# Altium footprint library CAP_ELEC_SIZE_H13.PcbLib: 1 footprints
Each footprint in its own frame and in the unit in brackets; x right, y up, seen from the top. Pads: shape width x height; smd on the part's side, far side on the other; paste and mask are expansions set on the pad; w line width, h text height; cw(c..) or ccw(c..) is an arc to the next point about the centre after c.
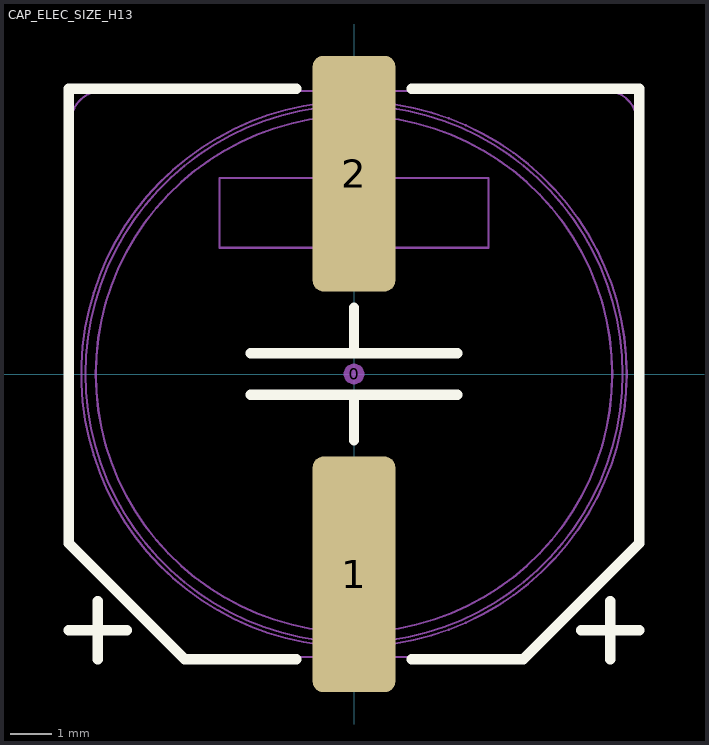
[diagram p0: the footprint, top view; thin cyan lines are the x and y axes]

## CAP_ELEC_SIZE_H13 [mm] "Capacitor, polarized, aluminum can; 12.5x13.5mm DxH"
height 13.5
pads (3):
  round 0.508 on Mech15: 0(0,0)
  rrect25% 2x5.7 smd: 1(0,-4.85) 2(0,4.85)
Top Overlay:
  lines w0.254: -6.9,-6.2 -5.5,-6.2 ; -6.2,-6.9 -6.2,-5.5 ; -2.5,-0.5 2.5,-0.5 ; -2.5,0.5 2.5,0.5 ; -1.4,-6.9 -4.1,-6.9 -6.9,-4.1 -6.9,6.9 -1.4,6.9 ; 0,-1.6 0,-0.5 ; 0,0.5 0,1.6 ; 1.4,-6.9 4.1,-6.9 6.9,-4.1 6.9,6.9 1.4,6.9 ; 5.5,-6.2 6.9,-6.2 ; 6.2,-6.9 6.2,-5.5
Mechanical 13:
  circle w0.05: c0,0 r6.25
  circle w0.05: c0,0 r6.5
  circle w0.05: c0,0 r6.6
  lines w0.05: -0.45,-6.85 -0.45,-7.5 0.45,-7.5 0.45,-6.85 ; -0.45,6.85 -0.45,7.5 0.45,7.5 0.45,6.85 ; -6.85,-4.11 -6.85,6.1 cw(c-6.1,6.1) -6.1,6.85 6.1,6.85 cw(c6.1,6.1) 6.85,6.1 6.85,-4.11 4.11,-6.85 -4.11,-6.85 -6.85,-4.11 ; -3.25,3.055 3.25,3.055 3.25,4.745 -3.25,4.745 -3.25,3.055
3D body "CAP Alum Elec Size H13.STEP": height 14, standoff 0, extent -6.85,-7.5 6.85,7.5